# Altium schematic symbol library OSU_KBD_SCHLIB.SchLib: 7 symbols
Pins are listed as number, name and electrical type; pins without a type are passive.

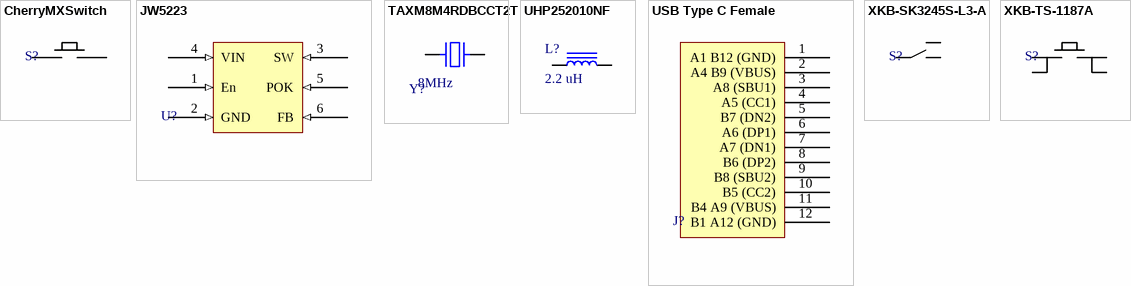
[diagram p0: symbols CherryMXSwitch to XKB-TS-1187A]

## CherryMXSwitch
designator S?
CherryMX Switch
footprint CherryMX
pins: 1, 2

## JW5223
designator U?
SMPS Buck; ComponentLink1Description: Datasheet; ComponentLink1URL: https://datasheet.lcsc.com/szlcsc/1909111631_JoulWatt-Tech-JW5223_C185110.pdf
footprint SOT23-6N (SOT23, 6-Leads, Body 2.90x2.45mm, Pitch 0.95mm, IPC Medium Density)
pins: 1 En (in), 2 GND (in), 3 SW (in), 4 VIN (in), 5 POK (in), 6 FB (in)

## TAXM8M4RDBCCT2T
designator Y?, comment 8MHz
footprint TAXM_SMD_CRYSTAL
pins: 1, 3

## UHP252010NF
designator L?, comment 2.2 uH
Inductor 2.2uH
footprint INDP1722X10N (Precision Wire Wound Inductor, 2-Leads, Body 1.67x2.15mm, IPC Medium Density)
pins: 1, 2

## USB Type C Female
designator J?
footprint USB Type C Female
pins: 1 A1 B12 (GND), 2 A4 B9 (VBUS), 3 A8 (SBU1), 4 A5 (CC1), 5 B7 (DN2), 6 A6 (DP1), 7 A7 (DN1), 8 B6 (DP2), 9 B8 (SBU2), 10 B5 (CC2), 11 B4 A9 (VBUS), 12 B1 A12 (GND)

## XKB-SK3245S-L3-A
designator S?
Toggle Switch
footprint XKB-SK-3245S
pins: 1, 2 0, 3

## XKB-TS-1187A
designator S?
Push Button
footprint XKB-RS-1187A
pins: 1, 2, 3, 4